# EAGLE library part BL652-SA-01-T/R (library BL652-SA-01-T_R)
Bluetooth v4.2 Module with NFC (Integrated Antenna)
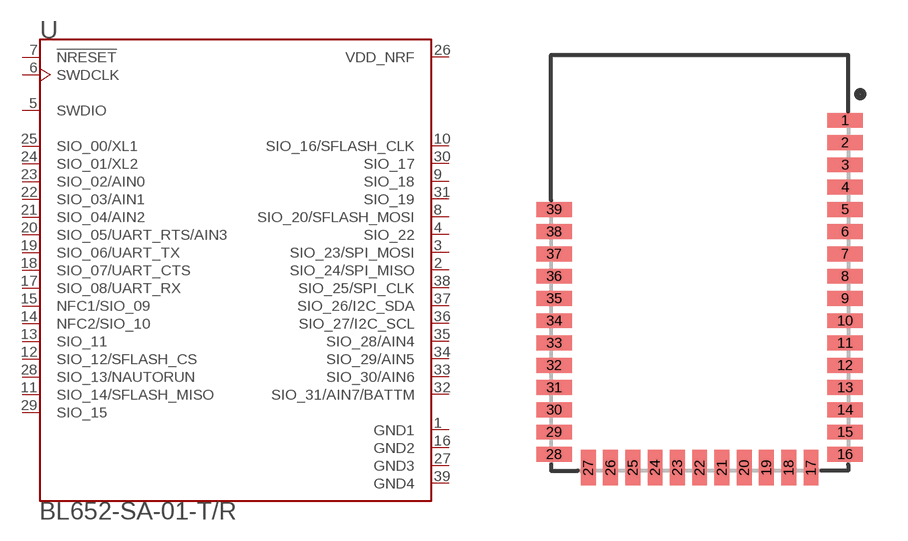
[diagram p0: symbol with the pads of XCVR_BL652-SA-01-T/R; footprint XCVR_BL652-SA-01-T/R]

Designator prefix U

## BL652-SA-01-T/R (DESCRIPTION: Bluetooth 1.8V to 3.6V 1Mbps 39-Pin SMD Module T/R; DIGI-KEY_PART_NUMBER: BL652-SA-01-CT-ND; DIGI-KEY_PURCHASE_URL: https://www.digikey.com/product-detail/en/laird-wireless-thermal-systems/BL652-SA-01-T-R/BL652-SA-01-CT-ND/6181738?utm_source=snapeda&utm_medium=aggregator&utm_campaign=symbol; MF: Laird -; MP: BL652-SA-01-T/R; PACKAGE: SMD-39 Laird)  [XCVR_BL652-SA-01-T/R]
1  GND1  pwr
2  SIO_24/SPI_MISO
3  SIO_23/SPI_MOSI
4  SIO_22
5  SWDIO
6  SWDCLK  in
7  !NRESET  in
8  SIO_20/SFLASH_MOSI
9  SIO_18
10  SIO_16/SFLASH_CLK
11  SIO_14/SFLASH_MISO
12  SIO_12/SFLASH_CS
13  SIO_11
14  NFC2/SIO_10
15  NFC1/SIO_09
16  GND2  pwr
17  SIO_08/UART_RX
18  SIO_07/UART_CTS
19  SIO_06/UART_TX
20  SIO_05/UART_RTS/AIN3
21  SIO_04/AIN2
22  SIO_03/AIN1
23  SIO_02/AIN0
24  SIO_01/XL2
25  SIO_00/XL1
26  VDD_NRF  pwr
27  GND3  pwr
28  SIO_13/NAUTORUN
29  SIO_15
30  SIO_17
31  SIO_19
32  SIO_31/AIN7/BATTM
33  SIO_30/AIN6
34  SIO_29/AIN5
35  SIO_28/AIN4
36  SIO_27/I2C_SCL
37  SIO_26/I2C_SDA
38  SIO_25/SPI_CLK
39  GND4  pwr

## Footprint XCVR_BL652-SA-01-T/R (pad centres in mm)
smd 1.2 x 0.5: 1 4.9,4.8; 2 4.9,4.05; 3 4.9,3.3; 4 4.9,2.55; 5 4.9,1.8; 6 4.9,1.05; 7 4.9,0.3; 8 4.9,-0.45; 9 4.9,-1.2; 10 4.9,-1.95; 11 4.9,-2.7; 12 4.9,-3.45; 13 4.9,-4.2; 14 4.9,-4.95; 15 4.9,-5.7; 16 4.9,-6.45; 28 -4.9,-6.45; 29 -4.9,-5.7; 30 -4.9,-4.95; 31 -4.9,-4.2; 32 -4.9,-3.45; 33 -4.9,-2.7; 34 -4.9,-1.95; 35 -4.9,-1.2; 36 -4.9,-0.45; 37 -4.9,0.3; 38 -4.9,1.05; 39 -4.9,1.8
smd 0.5 x 1.2: 17 3.75,-6.9; 18 3,-6.9; 19 2.25,-6.9; 20 1.5,-6.9; 21 0.75,-6.9; 22 0,-6.9; 23 -0.75,-6.9; 24 -1.5,-6.9; 25 -2.25,-6.9; 26 -3,-6.9; 27 -3.75,-6.9